# Altium integrated library Linear Technology Power Management Current Sources.IntLib: 79 symbols (part 1 of 7)
Pins are listed as number, name and electrical type; pins without a type are passive.

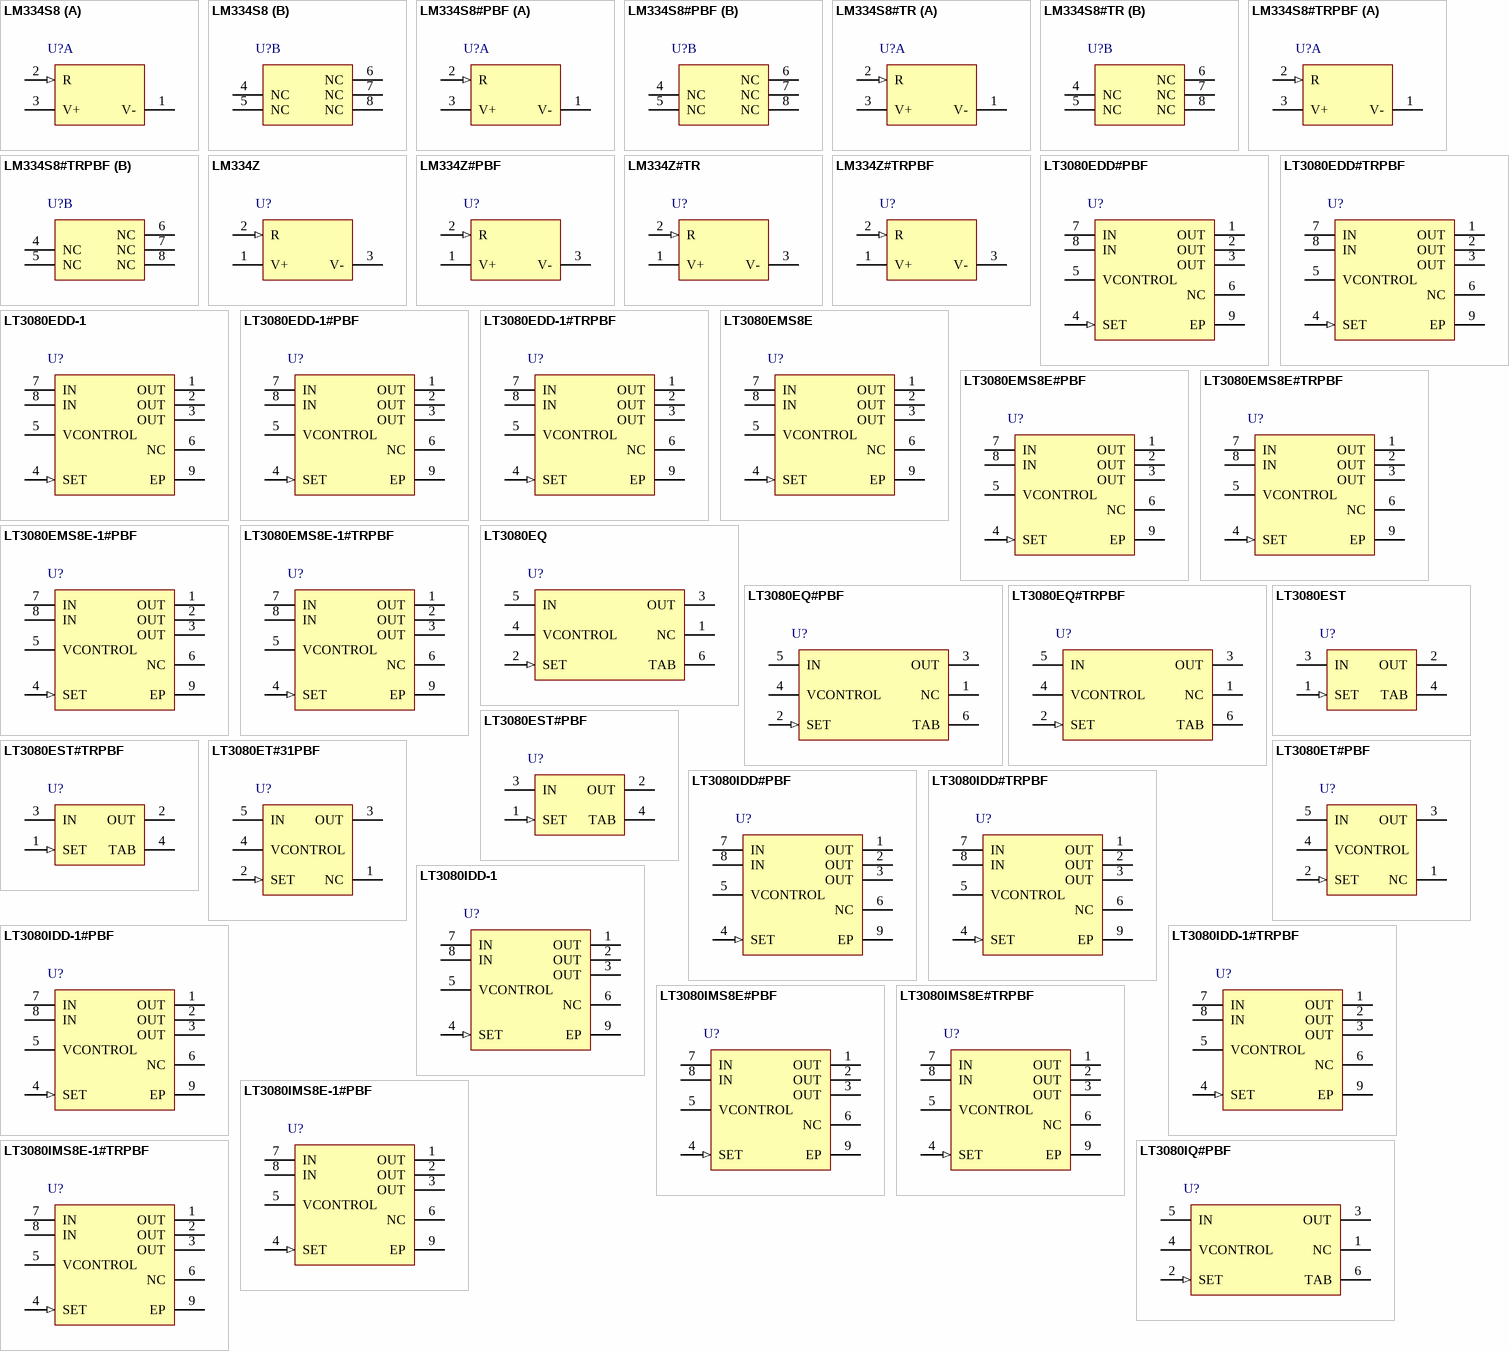
[diagram p0: symbols LM334S8 to LT3080IQ#PBF]

## LM334S8
designator U?
Constant Current Source and Temperature Sensor, 0.28 mA Isupply, 8-pin SOIC (S8-8), 0 to 70 degC; Manufacturer: Linear Technology; PartNumber: LM334S8; Extended Temp: C; Initial Accuracy(%): 3; Isupply(mA): 0.28; Output Current Range: 1uA to 10 mA; Vin Max(V): 30; Vin Min(V): 0.8; DatasheetVersion: Rev. C; PackageVersion: Rev. G, 03/2012; PackageReference: S8-8; PackageDescription: 8-Pin Plastic Small Outline (Narrow .150 Inch), Body 4.9 x 3.9 mm, Pitch 1.27 mm; Supplier 1: Digi-Key; Supplier Part Number 1: LM334S8-ND; RoHS: FALSE; Mounting Technology: Surface Mount; ComponentLink1Description: Manufacturer URL; ComponentLink1URL: http://www.linear.com/; ComponentLink2Description: Datasheet; ComponentLink2URL: http://cds.linear.com/docs/en/datasheet/134sfc.pdf; ComponentLink3Description: Package Specification; ComponentLink3URL: http://cds.linear.com/docs/en/packaging/05081610_G_SO8.pdf
footprint LT-S8-8_N (SOIC, 8-Leads, Body 4.9x3.9mm, Pitch 1.27mm, IPC Medium Density)
footprint LT-S8-8_L (SOIC, 8-Leads, Body 4.9x3.9mm, Pitch 1.27mm, IPC High Density)
footprint LT-S8-8_M (SOIC, 8-Leads, Body 4.9x3.9mm, Pitch 1.27mm, IPC Low Density)
part A pins: 1 V- (power), 2 R (in), 3 V+ (power)
part B pins: 4 NC, 5 NC, 6 NC, 7 NC, 8 NC

## LM334S8#PBF
designator U?
Constant Current Source and Temperature Sensor, 0.28 mA Isupply, 8-pin SOIC (S8-8), 0 to 70 degC, Pb-Free; Manufacturer: Linear Technology; PartNumber: LM334S8#PBF; Extended Temp: C; Initial Accuracy(%): 3; Isupply(mA): 0.28; Output Current Range: 1uA to 10 mA; Vin Max(V): 30; Vin Min(V): 0.8; DatasheetVersion: Rev. C; PackageVersion: Rev. G, 03/2012; PackageReference: S8-8; PackageDescription: 8-Pin Plastic Small Outline (Narrow .150 Inch), Body 4.9 x 3.9 mm, Pitch 1.27 mm; Supplier 1: Digi-Key; Supplier Part Number 1: LM334S8#PBF-ND; Supplier 2: Farnell; Supplier Part Number 2: 1273422; Supplier 3: Newark; Supplier Part Number 3: 55M8797; RoHS: TRUE; Mounting Technology: Surface Mount; ComponentLink1Description: Manufacturer URL; ComponentLink1URL: http://www.linear.com/; ComponentLink2Description: Datasheet; ComponentLink2URL: http://cds.linear.com/docs/en/datasheet/134sfc.pdf; ComponentLink3Description: Package Specification; ComponentLink3URL: http://cds.linear.com/docs/en/packaging/05081610_G_SO8.pdf
footprint LT-S8-8_N (SOIC, 8-Leads, Body 4.9x3.9mm, Pitch 1.27mm, IPC Medium Density)
footprint LT-S8-8_L (SOIC, 8-Leads, Body 4.9x3.9mm, Pitch 1.27mm, IPC High Density)
footprint LT-S8-8_M (SOIC, 8-Leads, Body 4.9x3.9mm, Pitch 1.27mm, IPC Low Density)
part A pins: 1 V- (power), 2 R (in), 3 V+ (power)
part B pins: 4 NC, 5 NC, 6 NC, 7 NC, 8 NC

## LM334S8#TR
designator U?
Constant Current Source and Temperature Sensor, 0.28 mA Isupply, 8-pin SOIC (S8-8), 0 to 70 degC, Tape and Reel; Manufacturer: Linear Technology; PartNumber: LM334S8#TR; Extended Temp: C; Initial Accuracy(%): 3; Isupply(mA): 0.28; Output Current Range: 1uA to 10 mA; Vin Max(V): 30; Vin Min(V): 0.8; DatasheetVersion: Rev. C; PackageVersion: Rev. G, 03/2012; PackageReference: S8-8; PackageDescription: 8-Pin Plastic Small Outline (Narrow .150 Inch), Body 4.9 x 3.9 mm, Pitch 1.27 mm; Supplier 1: Digi-Key; Supplier Part Number 1: LM334S8#TR-ND; Packing: Tape and Reel; RoHS: FALSE; Mounting Technology: Surface Mount; ComponentLink1Description: Manufacturer URL; ComponentLink1URL: http://www.linear.com/; ComponentLink2Description: Datasheet; ComponentLink2URL: http://cds.linear.com/docs/en/datasheet/134sfc.pdf; ComponentLink3Description: Package Specification; ComponentLink3URL: http://cds.linear.com/docs/en/packaging/05081610_G_SO8.pdf
footprint LT-S8-8_N (SOIC, 8-Leads, Body 4.9x3.9mm, Pitch 1.27mm, IPC Medium Density)
footprint LT-S8-8_L (SOIC, 8-Leads, Body 4.9x3.9mm, Pitch 1.27mm, IPC High Density)
footprint LT-S8-8_M (SOIC, 8-Leads, Body 4.9x3.9mm, Pitch 1.27mm, IPC Low Density)
part A pins: 1 V- (power), 2 R (in), 3 V+ (power)
part B pins: 4 NC, 5 NC, 6 NC, 7 NC, 8 NC

## LM334S8#TRPBF
designator U?
Constant Current Source and Temperature Sensor, 0.28 mA Isupply, 8-pin SOIC (S8-8), 0 to 70 degC, Pb-Free, Tape and Reel; Manufacturer: Linear Technology; PartNumber: LM334S8#TRPBF; Extended Temp: C; Initial Accuracy(%): 3; Isupply(mA): 0.28; Output Current Range: 1uA to 10 mA; Vin Max(V): 30; Vin Min(V): 0.8; DatasheetVersion: Rev. C; PackageVersion: Rev. G, 03/2012; PackageReference: S8-8; PackageDescription: 8-Pin Plastic Small Outline (Narrow .150 Inch), Body 4.9 x 3.9 mm, Pitch 1.27 mm; Supplier 1: Digi-Key; Supplier Part Number 1: LM334S8#TRPBF-ND; Packing: Tape and Reel; RoHS: TRUE; Mounting Technology: Surface Mount; ComponentLink1Description: Manufacturer URL; ComponentLink1URL: http://www.linear.com/; ComponentLink2Description: Datasheet; ComponentLink2URL: http://cds.linear.com/docs/en/datasheet/134sfc.pdf; ComponentLink3Description: Package Specification; ComponentLink3URL: http://cds.linear.com/docs/en/packaging/05081610_G_SO8.pdf
footprint LT-S8-8_N (SOIC, 8-Leads, Body 4.9x3.9mm, Pitch 1.27mm, IPC Medium Density)
footprint LT-S8-8_L (SOIC, 8-Leads, Body 4.9x3.9mm, Pitch 1.27mm, IPC High Density)
footprint LT-S8-8_M (SOIC, 8-Leads, Body 4.9x3.9mm, Pitch 1.27mm, IPC Low Density)
part A pins: 1 V- (power), 2 R (in), 3 V+ (power)
part B pins: 4 NC, 5 NC, 6 NC, 7 NC, 8 NC

## LM334Z
designator U?
Constant Current Source and Temperature Sensor, 0.28 mA Isupply, 3-pin TO-226 (Z3), 0 to 70 degC; Manufacturer: Linear Technology; PartNumber: LM334Z; Extended Temp: C; Initial Accuracy(%): 3; Isupply(mA): 0.28; Output Current Range: 1uA to 10 mA; Vin Max(V): 30; Vin Min(V): 0.8; DatasheetVersion: Rev. C; PackageVersion: Rev. C, 06/2010; PackageReference: Z-3; PackageDescription: 3-Pin Plastic TO-92, Body 4.572 x 3.556 mm, Pitch 1.27 mm; Supplier 1: Digi-Key; Supplier Part Number 1: LM334ZLT-ND; Supplier 2: Newark; Supplier Part Number 2: 55M8800; RoHS: FALSE; Mounting Technology: Through Hole; ComponentLink1Description: Manufacturer URL; ComponentLink1URL: http://www.linear.com/; ComponentLink2Description: Datasheet; ComponentLink2URL: http://cds.linear.com/docs/en/datasheet/134sfc.pdf; ComponentLink3Description: Package Specification; ComponentLink3URL: http://cds.linear.com/docs/en/packaging/TO-92_3_05-08-1410.pdf
footprint LT-Z-3-S-TO-226_V (TO-92, 3-Leads, Body 4.572x3.556mm, Pitch 1.27mm)
pins: 1 V+ (power), 2 R (in), 3 V- (power)

## LM334Z#PBF
designator U?
Constant Current Source and Temperature Sensor, 0.28 mA Isupply, 3-pin TO-226 (Z3), 0 to 70 degC, Pb-Free; Manufacturer: Linear Technology; PartNumber: LM334Z#PBF; Extended Temp: C; Initial Accuracy(%): 3; Isupply(mA): 0.28; Output Current Range: 1uA to 10 mA; Vin Max(V): 30; Vin Min(V): 0.8; DatasheetVersion: Rev. C; PackageVersion: Rev. C, 06/2010; PackageReference: Z-3; PackageDescription: 3-Pin Plastic TO-92, Body 4.572 x 3.556 mm, Pitch 1.27 mm; Supplier 1: Digi-Key; Supplier Part Number 1: LM334Z#PBF-ND; Supplier 2: Newark; Supplier Part Number 2: 55M8801; RoHS: TRUE; Mounting Technology: Through Hole; ComponentLink1Description: Manufacturer URL; ComponentLink1URL: http://www.linear.com/; ComponentLink2Description: Datasheet; ComponentLink2URL: http://cds.linear.com/docs/en/datasheet/134sfc.pdf; ComponentLink3Description: Package Specification; ComponentLink3URL: http://cds.linear.com/docs/en/packaging/TO-92_3_05-08-1410.pdf
footprint LT-Z-3-S-TO-226_V (TO-92, 3-Leads, Body 4.572x3.556mm, Pitch 1.27mm)
pins: 1 V+ (power), 2 R (in), 3 V- (power)

## LM334Z#TR
designator U?
Constant Current Source and Temperature Sensor, 0.28 mA Isupply, 3-pin TO-226 (Z-3), 0 to 70 degC, Tape and Reel; Manufacturer: Linear Technology; PartNumber: LM334Z#TR; Extended Temp: C; Initial Accuracy(%): 3; Isupply(mA): 0.28; Output Current Range: 1uA to 10 mA; Vin Max(V): 30; Vin Min(V): 0.8; DatasheetVersion: Rev. C; PackageVersion: Rev. C, 06/2010; PackageReference: Z-3; PackageDescription: 3-Pin Plastic TO-92, Body 4.572 x 3.556 mm, Pitch 1.27 mm; Supplier 1: Digi-Key; Supplier Part Number 1: LM334Z#TR-ND; Packing: Tape and Reel; RoHS: FALSE; Mounting Technology: Through Hole; ComponentLink1Description: Manufacturer URL; ComponentLink1URL: http://www.linear.com/; ComponentLink2Description: Datasheet; ComponentLink2URL: http://cds.linear.com/docs/en/datasheet/134sfc.pdf; ComponentLink3Description: Package Specification; ComponentLink3URL: http://cds.linear.com/docs/en/packaging/TO-92_3_05-08-1410.pdf
footprint LT-Z-3-S-TO-226_V (TO-92, 3-Leads, Body 4.572x3.556mm, Pitch 1.27mm)
pins: 1 V+ (power), 2 R (in), 3 V- (power)

## LM334Z#TRPBF
designator U?
Constant Current Source and Temperature Sensor, 0.28 mA Isupply, 3-pin TO-226 (Z3), 0 to 70 degC, Pb-Free, Tape and Reel; Manufacturer: Linear Technology; PartNumber: LM334Z#TRPBF; Extended Temp: C; Initial Accuracy(%): 3; Isupply(mA): 0.28; Output Current Range: 1uA to 10 mA; Vin Max(V): 30; Vin Min(V): 0.8; DatasheetVersion: Rev. C; PackageVersion: Rev. C, 06/2010; PackageReference: Z-3; PackageDescription: 3-Pin Plastic TO-92, Body 4.572 x 3.556 mm, Pitch 1.27 mm; Supplier 1: Digi-Key; Supplier Part Number 1: LM334Z#TRPBF-ND; Supplier 2: Newark; Supplier Part Number 2: 55M8803; Packing: Tape and Reel; RoHS: TRUE; Mounting Technology: Through Hole; ComponentLink1Description: Manufacturer URL; ComponentLink1URL: http://www.linear.com/; ComponentLink2Description: Datasheet; ComponentLink2URL: http://cds.linear.com/docs/en/datasheet/134sfc.pdf; ComponentLink3Description: Package Specification; ComponentLink3URL: http://cds.linear.com/docs/en/packaging/TO-92_3_05-08-1410.pdf
footprint LT-Z-3-S-TO-226_V (TO-92, 3-Leads, Body 4.572x3.556mm, Pitch 1.27mm)
pins: 1 V+ (power), 2 R (in), 3 V- (power)

## LT3080EDD#PBF
designator U?
Adjustable 1.1 A Single Resistor Low Dropout Regulator, 0.3 mA Isupply, 8-pin SON (DD-8), -40 to 125 degC, Pb-Free; Manufacturer: Linear Technology; PartNumber: LT3080EDD#PBF; Extended Temp: E, I; Initial Accuracy(%): 1; Isupply(mA): 0.3; Vin Max(V): 36; Vin Min(V): 1.2; DatasheetVersion: Rev. F; PackageVersion: Jun-10; PackageReference: DD-8; PackageDescription: 8-Pin Plastic DFN, Body 3 x 3 mm, Pitch 0.5 mm; Supplier 1: Digi-Key; Supplier Part Number 1: LT3080EDD#PBF-ND; Supplier 2: Farnell; Supplier Part Number 2: 1663551; Supplier 3: Newark; Supplier Part Number 3: 75M4714; RoHS: TRUE; Mounting Technology: Surface Mount; Code_JEDEC: MO-229; ComponentLink1Description: Manufacturer URL; ComponentLink1URL: http://www.linear.com/; ComponentLink2Description: Datasheet; ComponentLink2URL: http://cds.linear.com/docs/en/datasheet/3080fc.pdf; ComponentLink3Description: Package Specification; ComponentLink3URL: http://cds.linear.com/docs/en/packaging/DFN_8_05-08-1698.pdf
footprint LT-DD-8_V (SON, 8-Leads, Body 3x3mm, Pitch 0.5mm, Thermal Pad 1.65x2.38 mm, IPC Low Density)
pins: 1 OUT (power) "This is the power output of the device. There must be a minimum load current of 1mA or the output may not regulate.", 2 OUT (power) "This is the power output of the device. There must be a minimum load current of 1mA or the output may not regulate.", 3 OUT (power) "This is the power output of the device. There must be a minimum load current of 1mA or the output may not regulate.", 4 SET (in) "This pin is the input to the error amplifier and the regulation set point for the device. A fixed current of 10uA flows out of this pin through a single external resistor, which programs the output voltage of the device. (See Datasheet)", 5 VCONTROL (power) "This pin is the supply pin for the control circuitry of the device. The current flow into this pin is about 1.7% of the output current. For the device to regulate, this voltage must be more than 1.2V to 1.35V greater than (See Datasheet)", 6 NC "No Connection. No Connect pins have no connection to internal circuitry and may be tied to VIN, VCONTROL, VOUT , GND, or floated.", 7 IN (power) "This is the collector to the power device of the LT3080-1. The output load current is supplied through this pin. For the device to regulate, the voltage at this pin must be more than 0.1V to 0.5V greater than the output (See Datasheet)", 8 IN (power) "This is the collector to the power device of the LT3080-1. The output load current is supplied through this pin. For the device to regulate, the voltage at this pin must be more than 0.1V to 0.5V greater than the output (See Datasheet)", 9 EP (power) "OUT on MS8E and DFN packages."

## LT3080EDD#TRPBF
designator U?
Adjustable 1.1 A Single Resistor Low Dropout Regulator, 0.3 mA Isupply, 8-pin SON (DD-8), -40 to 125 degC, Pb-Free, Tape and Reel; Manufacturer: Linear Technology; PartNumber: LT3080EDD#TRPBF; Extended Temp: E, I; Initial Accuracy(%): 1; Isupply(mA): 0.3; Vin Max(V): 36; Vin Min(V): 1.2; DatasheetVersion: Rev. F; PackageVersion: Jun-10; PackageReference: DD-8; PackageDescription: 8-Pin Plastic DFN, Body 3 x 3 mm, Pitch 0.5 mm; Supplier 1: Digi-Key; Supplier Part Number 1: LT3080EDD#TRPBFTR-ND; Supplier 2: Digi-Key; Supplier Part Number 2: LT3080EDD#TRPBFCT-ND; Supplier 3: Digi-Key; Supplier Part Number 3: LT3080EDD#TRPBFDKR-ND; Supplier 4: Newark; Supplier Part Number 4: 75M4715; Packing: Tape and Reel; RoHS: TRUE; Mounting Technology: Surface Mount; Code_JEDEC: MO-229; ComponentLink1Description: Manufacturer URL; ComponentLink1URL: http://www.linear.com/; ComponentLink2Description: Datasheet; ComponentLink2URL: http://cds.linear.com/docs/en/datasheet/3080fc.pdf; ComponentLink3Description: Package Specification; ComponentLink3URL: http://cds.linear.com/docs/en/packaging/DFN_8_05-08-1698.pdf
footprint LT-DD-8_V (SON, 8-Leads, Body 3x3mm, Pitch 0.5mm, Thermal Pad 1.65x2.38 mm, IPC Low Density)
pins: 1 OUT (power) "This is the power output of the device. There must be a minimum load current of 1mA or the output may not regulate.", 2 OUT (power) "This is the power output of the device. There must be a minimum load current of 1mA or the output may not regulate.", 3 OUT (power) "This is the power output of the device. There must be a minimum load current of 1mA or the output may not regulate.", 4 SET (in) "This pin is the input to the error amplifier and the regulation set point for the device. A fixed current of 10uA flows out of this pin through a single external resistor, which programs the output voltage of the device. (See Datasheet)", 5 VCONTROL (power) "This pin is the supply pin for the control circuitry of the device. The current flow into this pin is about 1.7% of the output current. For the device to regulate, this voltage must be more than 1.2V to 1.35V greater than (See Datasheet)", 6 NC "No Connection. No Connect pins have no connection to internal circuitry and may be tied to VIN, VCONTROL, VOUT , GND, or floated.", 7 IN (power) "This is the collector to the power device of the LT3080-1. The output load current is supplied through this pin. For the device to regulate, the voltage at this pin must be more than 0.1V to 0.5V greater than the output (See Datasheet)", 8 IN (power) "This is the collector to the power device of the LT3080-1. The output load current is supplied through this pin. For the device to regulate, the voltage at this pin must be more than 0.1V to 0.5V greater than the output (See Datasheet)", 9 EP (power) "OUT on MS8E and DFN packages."

## LT3080EDD-1
designator U?
Parallelable 1.1 A Adjustable Single Resistor Low Dropout Regulator, 0.3 mA Isupply, 8-pin SON (DD-8), -40 to 125 degC; Manufacturer: Linear Technology; PartNumber: LT3080EDD-1; Extended Temp: E, I; Initial Accuracy(%): 1; Isupply(mA): 0.3; Output Current Range: 0 to 2200 mA or 0 to 3300 mA; Vin Max(V): 36; Vin Min(V): 1.2; DatasheetVersion: Rev. B; PackageVersion: Jun-10; PackageReference: DD-8; PackageDescription: 8-Pin Plastic DFN, Body 3 x 3 mm, Pitch 0.5 mm; RoHS: FALSE; Mounting Technology: Surface Mount; Code_JEDEC: MO-229; ComponentLink1Description: Manufacturer URL; ComponentLink1URL: http://www.linear.com/; ComponentLink2Description: Datasheet; ComponentLink2URL: http://cds.linear.com/docs/en/datasheet/30801fb.pdf; ComponentLink3Description: Package Specification; ComponentLink3URL: http://cds.linear.com/docs/en/packaging/DFN_8_05-08-1698.pdf
footprint LT-DD-8_V (SON, 8-Leads, Body 3x3mm, Pitch 0.5mm, Thermal Pad 1.65x2.38 mm, IPC Low Density)
pins: 1 OUT (power) "This is the power output of the device. There must be a minimum load current of 1mA or the output may not regulate.", 2 OUT (power) "This is the power output of the device. There must be a minimum load current of 1mA or the output may not regulate.", 3 OUT (power) "This is the power output of the device. There must be a minimum load current of 1mA or the output may not regulate.", 4 SET (in) "This pin is the input to the error amplifier and the regulation set point for the device. A fixed current of 10uA flows out of this pin through a single external resistor, which programs the output voltage of the device. (See Datasheet)", 5 VCONTROL (power) "This pin is the supply pin for the control circuitry of the device. The current flow into this pin is about 1.7% of the output current. For the device to regulate, this voltage must be more than 1.2V to 1.35V greater than (See Datasheet)", 6 NC "No Connection. No Connect pins have no connection to internal circuitry and may be tied to VIN, VCONTROL, VOUT , GND, or floated.", 7 IN (power) "This is the collector to the power device of the LT3080-1. The output load current is supplied through this pin. For the device to regulate, the voltage at this pin must be more than 0.1V to 0.5V greater than the output (See Datasheet)", 8 IN (power) "This is the collector to the power device of the LT3080-1. The output load current is supplied through this pin. For the device to regulate, the voltage at this pin must be more than 0.1V to 0.5V greater than the output (See Datasheet)", 9 EP (power) "OUT on MS8E and DFN packages."

## LT3080EDD-1#PBF
designator U?
Parallelable 1.1 A Adjustable Single Resistor Low Dropout Regulator, 0.3 mA Isupply, 8-pin SON (DD-8), -40 to 125 degC, Pb-Free; Manufacturer: Linear Technology; PartNumber: LT3080EDD-1#PBF; Extended Temp: E, I; Initial Accuracy(%): 1; Isupply(mA): 0.3; Output Current Range: 0 to 2200 mA or 0 to 3300 mA; Vin Max(V): 36; Vin Min(V): 1.2; DatasheetVersion: Rev. B; PackageVersion: Jun-10; PackageReference: DD-8; PackageDescription: 8-Pin Plastic DFN, Body 3 x 3 mm, Pitch 0.5 mm; Supplier 1: Digi-Key; Supplier Part Number 1: LT3080EDD-1#PBF-ND; Supplier 2: Farnell; Supplier Part Number 2: 2295272; Supplier 3: Newark; Supplier Part Number 3: 88M1939; RoHS: TRUE; Mounting Technology: Surface Mount; Code_JEDEC: MO-229; ComponentLink1Description: Manufacturer URL; ComponentLink1URL: http://www.linear.com/; ComponentLink2Description: Datasheet; ComponentLink2URL: http://cds.linear.com/docs/en/datasheet/30801fb.pdf; ComponentLink3Description: Package Specification; ComponentLink3URL: http://cds.linear.com/docs/en/packaging/DFN_8_05-08-1698.pdf
footprint LT-DD-8_V (SON, 8-Leads, Body 3x3mm, Pitch 0.5mm, Thermal Pad 1.65x2.38 mm, IPC Low Density)
pins: 1 OUT (power) "This is the power output of the device. There must be a minimum load current of 1mA or the output may not regulate.", 2 OUT (power) "This is the power output of the device. There must be a minimum load current of 1mA or the output may not regulate.", 3 OUT (power) "This is the power output of the device. There must be a minimum load current of 1mA or the output may not regulate.", 4 SET (in) "This pin is the input to the error amplifier and the regulation set point for the device. A fixed current of 10uA flows out of this pin through a single external resistor, which programs the output voltage of the device. (See Datasheet)", 5 VCONTROL (power) "This pin is the supply pin for the control circuitry of the device. The current flow into this pin is about 1.7% of the output current. For the device to regulate, this voltage must be more than 1.2V to 1.35V greater than (See Datasheet)", 6 NC "No Connection. No Connect pins have no connection to internal circuitry and may be tied to VIN, VCONTROL, VOUT , GND, or floated.", 7 IN (power) "This is the collector to the power device of the LT3080-1. The output load current is supplied through this pin. For the device to regulate, the voltage at this pin must be more than 0.1V to 0.5V greater than the output (See Datasheet)", 8 IN (power) "This is the collector to the power device of the LT3080-1. The output load current is supplied through this pin. For the device to regulate, the voltage at this pin must be more than 0.1V to 0.5V greater than the output (See Datasheet)", 9 EP (power) "OUT on MS8E and DFN packages."

## LT3080EDD-1#TRPBF
designator U?
Parallelable 1.1 A Adjustable Single Resistor Low Dropout Regulator, 0.3 mA Isupply, 8-pin SON (DD-8), -40 to 125 degC, Pb-Free, Tape and Reel; Manufacturer: Linear Technology; PartNumber: LT3080EDD-1#TRPBF; Extended Temp: E, I; Initial Accuracy(%): 1; Isupply(mA): 0.3; Output Current Range: 0 to 2200 mA or 0 to 3300 mA; Vin Max(V): 36; Vin Min(V): 1.2; DatasheetVersion: Rev. B; PackageVersion: Jun-10; PackageReference: DD-8; PackageDescription: 8-Pin Plastic DFN, Body 3 x 3 mm, Pitch 0.5 mm; Supplier 1: Digi-Key; Supplier Part Number 1: LT3080EDD-1#TRPBF-ND; Supplier 2: Newark; Supplier Part Number 2: 88M1940; Packing: Tape and Reel; RoHS: TRUE; Mounting Technology: Surface Mount; Code_JEDEC: MO-229; ComponentLink1Description: Manufacturer URL; ComponentLink1URL: http://www.linear.com/; ComponentLink2Description: Datasheet; ComponentLink2URL: http://cds.linear.com/docs/en/datasheet/30801fb.pdf; ComponentLink3Description: Package Specification; ComponentLink3URL: http://cds.linear.com/docs/en/packaging/DFN_8_05-08-1698.pdf
footprint LT-DD-8_V (SON, 8-Leads, Body 3x3mm, Pitch 0.5mm, Thermal Pad 1.65x2.38 mm, IPC Low Density)
pins: 1 OUT (power) "This is the power output of the device. There must be a minimum load current of 1mA or the output may not regulate.", 2 OUT (power) "This is the power output of the device. There must be a minimum load current of 1mA or the output may not regulate.", 3 OUT (power) "This is the power output of the device. There must be a minimum load current of 1mA or the output may not regulate.", 4 SET (in) "This pin is the input to the error amplifier and the regulation set point for the device. A fixed current of 10uA flows out of this pin through a single external resistor, which programs the output voltage of the device. (See Datasheet)", 5 VCONTROL (power) "This pin is the supply pin for the control circuitry of the device. The current flow into this pin is about 1.7% of the output current. For the device to regulate, this voltage must be more than 1.2V to 1.35V greater than (See Datasheet)", 6 NC "No Connection. No Connect pins have no connection to internal circuitry and may be tied to VIN, VCONTROL, VOUT , GND, or floated.", 7 IN (power) "This is the collector to the power device of the LT3080-1. The output load current is supplied through this pin. For the device to regulate, the voltage at this pin must be more than 0.1V to 0.5V greater than the output (See Datasheet)", 8 IN (power) "This is the collector to the power device of the LT3080-1. The output load current is supplied through this pin. For the device to regulate, the voltage at this pin must be more than 0.1V to 0.5V greater than the output (See Datasheet)", 9 EP (power) "OUT on MS8E and DFN packages."

## LT3080EMS8E
designator U?
Adjustable 1.1 A Single Resistor Low Dropout Regulator, 0.3 mA Isupply, 8-pin SOP (MS8E-8), -40 to 125 degC; Manufacturer: Linear Technology; PartNumber: LT3080EMS8E; Extended Temp: E, I; Initial Accuracy(%): 1; Isupply(mA): 0.3; Vin Max(V): 36; Vin Min(V): 1.2; DatasheetVersion: Rev. F; PackageVersion: Rev. F; PackageReference: MS8E-8; PackageDescription: 8-Pin Plastic MSOP, Exposed Die Pad, Body 3 x 3 mm, Pitch 0.65 mm; RoHS: FALSE; Mounting Technology: Surface Mount; ComponentLink1Description: Manufacturer URL; ComponentLink1URL: http://www.linear.com/; ComponentLink2Description: Datasheet; ComponentLink2URL: http://cds.linear.com/docs/en/datasheet/3080fc.pdf; ComponentLink3Description: Package Specification; ComponentLink3URL: http://cds.linear.com/docs/en/datasheet/3080fc.pdf
footprint LT-MS8E-8-1880X1680TP_N (SOP, 8-Leads, Body 3x3mm, Pitch 0.65mm, Thermal Pad 1.88x1.68mm, IPC Medium Density)
footprint LT-MS8E-8-1880X1680TP_L (SOP, 8-Leads, Body 3x3mm, Pitch 0.65mm, Thermal Pad 1.88x1.68mm, IPC High Density)
footprint LT-MS8E-8-1880X1680TP_M (SOP, 8-Leads, Body 3x3mm, Pitch 0.65mm, Thermal Pad 1.88x1.68mm, IPC Low Density)
pins: 1 OUT (power) "This is the power output of the device. There must be a minimum load current of 1mA or the output may not regulate.", 2 OUT (power) "This is the power output of the device. There must be a minimum load current of 1mA or the output may not regulate.", 3 OUT (power) "This is the power output of the device. There must be a minimum load current of 1mA or the output may not regulate.", 4 SET (in) "This pin is the input to the error amplifier and the regulation set point for the device. A fixed current of 10uA flows out of this pin through a single external resistor, which programs the output voltage of the device. (See Datasheet)", 5 VCONTROL (power) "This pin is the supply pin for the control circuitry of the device. The current flow into this pin is about 1.7% of the output current. For the device to regulate, this voltage must be more than 1.2V to 1.35V greater than (See Datasheet)", 6 NC "No Connection. No Connect pins have no connection to internal circuitry and may be tied to VIN, VCONTROL, VOUT , GND, or floated.", 7 IN (power) "This is the collector to the power device of the LT3080-1. The output load current is supplied through this pin. For the device to regulate, the voltage at this pin must be more than 0.1V to 0.5V greater than the output (See Datasheet)", 8 IN (power) "This is the collector to the power device of the LT3080-1. The output load current is supplied through this pin. For the device to regulate, the voltage at this pin must be more than 0.1V to 0.5V greater than the output (See Datasheet)", 9 EP (power) "OUT on MS8E and DFN packages."

## LT3080EMS8E#PBF
designator U?
Adjustable 1.1 A Single Resistor Low Dropout Regulator, 0.3 mA Isupply, 8-pin SOP (MS8E-8), -40 to 125 degC, Pb-Free; Manufacturer: Linear Technology; PartNumber: LT3080EMS8E#PBF; Extended Temp: E, I; Initial Accuracy(%): 1; Isupply(mA): 0.3; Vin Max(V): 36; Vin Min(V): 1.2; DatasheetVersion: Rev. F; PackageVersion: Rev. F; PackageReference: MS8E-8; PackageDescription: 8-Pin Plastic MSOP, Exposed Die Pad, Body 3 x 3 mm, Pitch 0.65 mm; Supplier 1: Digi-Key; Supplier Part Number 1: LT3080EMS8E#PBF-ND; Supplier 2: Farnell; Supplier Part Number 2: 1663552; Supplier 3: Newark; Supplier Part Number 3: 75M4716; RoHS: TRUE; Mounting Technology: Surface Mount; ComponentLink1Description: Manufacturer URL; ComponentLink1URL: http://www.linear.com/; ComponentLink2Description: Datasheet; ComponentLink2URL: http://cds.linear.com/docs/en/datasheet/3080fc.pdf; ComponentLink3Description: Package Specification; ComponentLink3URL: http://cds.linear.com/docs/en/datasheet/3080fc.pdf
footprint LT-MS8E-8-1880X1680TP_N (SOP, 8-Leads, Body 3x3mm, Pitch 0.65mm, Thermal Pad 1.88x1.68mm, IPC Medium Density)
footprint LT-MS8E-8-1880X1680TP_L (SOP, 8-Leads, Body 3x3mm, Pitch 0.65mm, Thermal Pad 1.88x1.68mm, IPC High Density)
footprint LT-MS8E-8-1880X1680TP_M (SOP, 8-Leads, Body 3x3mm, Pitch 0.65mm, Thermal Pad 1.88x1.68mm, IPC Low Density)
pins: 1 OUT (power) "This is the power output of the device. There must be a minimum load current of 1mA or the output may not regulate.", 2 OUT (power) "This is the power output of the device. There must be a minimum load current of 1mA or the output may not regulate.", 3 OUT (power) "This is the power output of the device. There must be a minimum load current of 1mA or the output may not regulate.", 4 SET (in) "This pin is the input to the error amplifier and the regulation set point for the device. A fixed current of 10uA flows out of this pin through a single external resistor, which programs the output voltage of the device. (See Datasheet)", 5 VCONTROL (power) "This pin is the supply pin for the control circuitry of the device. The current flow into this pin is about 1.7% of the output current. For the device to regulate, this voltage must be more than 1.2V to 1.35V greater than (See Datasheet)", 6 NC "No Connection. No Connect pins have no connection to internal circuitry and may be tied to VIN, VCONTROL, VOUT , GND, or floated.", 7 IN (power) "This is the collector to the power device of the LT3080-1. The output load current is supplied through this pin. For the device to regulate, the voltage at this pin must be more than 0.1V to 0.5V greater than the output (See Datasheet)", 8 IN (power) "This is the collector to the power device of the LT3080-1. The output load current is supplied through this pin. For the device to regulate, the voltage at this pin must be more than 0.1V to 0.5V greater than the output (See Datasheet)", 9 EP (power) "OUT on MS8E and DFN packages."

## LT3080EMS8E#TRPBF
designator U?
Adjustable 1.1 A Single Resistor Low Dropout Regulator, 0.3 mA Isupply, 8-pin SOP (MS8E-8), -40 to 125 degC, Pb-Free, Tape and Reel; Manufacturer: Linear Technology; PartNumber: LT3080EMS8E#TRPBF; Extended Temp: E, I; Initial Accuracy(%): 1; Isupply(mA): 0.3; Vin Max(V): 36; Vin Min(V): 1.2; DatasheetVersion: Rev. F; PackageVersion: Rev. F; PackageReference: MS8E-8; PackageDescription: 8-Pin Plastic MSOP, Exposed Die Pad, Body 3 x 3 mm, Pitch 0.65 mm; Supplier 1: Digi-Key; Supplier Part Number 1: LT3080EMS8E#TRPBFTR-ND; Supplier 2: Digi-Key; Supplier Part Number 2: LT3080EMS8E#TRPBFCT-ND; Supplier 3: Digi-Key; Supplier Part Number 3: LT3080EMS8E#TRPBFDKR-ND; Supplier 4: Newark; Supplier Part Number 4: 75M4717; Packing: Tape and Reel; RoHS: TRUE; Mounting Technology: Surface Mount; ComponentLink1Description: Manufacturer URL; ComponentLink1URL: http://www.linear.com/; ComponentLink2Description: Datasheet; ComponentLink2URL: http://cds.linear.com/docs/en/datasheet/3080fc.pdf; ComponentLink3Description: Package Specification; ComponentLink3URL: http://cds.linear.com/docs/en/datasheet/3080fc.pdf
footprint LT-MS8E-8-1880X1680TP_N (SOP, 8-Leads, Body 3x3mm, Pitch 0.65mm, Thermal Pad 1.88x1.68mm, IPC Medium Density)
footprint LT-MS8E-8-1880X1680TP_L (SOP, 8-Leads, Body 3x3mm, Pitch 0.65mm, Thermal Pad 1.88x1.68mm, IPC High Density)
footprint LT-MS8E-8-1880X1680TP_M (SOP, 8-Leads, Body 3x3mm, Pitch 0.65mm, Thermal Pad 1.88x1.68mm, IPC Low Density)
pins: 1 OUT (power) "This is the power output of the device. There must be a minimum load current of 1mA or the output may not regulate.", 2 OUT (power) "This is the power output of the device. There must be a minimum load current of 1mA or the output may not regulate.", 3 OUT (power) "This is the power output of the device. There must be a minimum load current of 1mA or the output may not regulate.", 4 SET (in) "This pin is the input to the error amplifier and the regulation set point for the device. A fixed current of 10uA flows out of this pin through a single external resistor, which programs the output voltage of the device. (See Datasheet)", 5 VCONTROL (power) "This pin is the supply pin for the control circuitry of the device. The current flow into this pin is about 1.7% of the output current. For the device to regulate, this voltage must be more than 1.2V to 1.35V greater than (See Datasheet)", 6 NC "No Connection. No Connect pins have no connection to internal circuitry and may be tied to VIN, VCONTROL, VOUT , GND, or floated.", 7 IN (power) "This is the collector to the power device of the LT3080-1. The output load current is supplied through this pin. For the device to regulate, the voltage at this pin must be more than 0.1V to 0.5V greater than the output (See Datasheet)", 8 IN (power) "This is the collector to the power device of the LT3080-1. The output load current is supplied through this pin. For the device to regulate, the voltage at this pin must be more than 0.1V to 0.5V greater than the output (See Datasheet)", 9 EP (power) "OUT on MS8E and DFN packages."

## LT3080EMS8E-1#PBF
designator U?
Parallelable 1.1 A Adjustable Single Resistor Low Dropout Regulator, 0.3 mA Isupply, 8-pin SOP (MS8E-8), -40 to 125 degC, Pb-Free; Manufacturer: Linear Technology; PartNumber: LT3080EMS8E-1#PBF; Extended Temp: E, I; Initial Accuracy(%): 1; Isupply(mA): 0.3; Output Current Range: 0 to 2200 mA or 0 to 3300 mA; Vin Max(V): 36; Vin Min(V): 1.2; DatasheetVersion: Rev. B; PackageVersion: Rev. F; PackageReference: MS8E-8; PackageDescription: 8-Pin Plastic MSOP, Exposed Die Pad, Body 3 x 3 mm, Pitch 0.65 mm; Supplier 1: Digi-Key; Supplier Part Number 1: LT3080EMS8E-1#PBF-ND; Supplier 2: Farnell; Supplier Part Number 2: 2295273; Supplier 3: Newark; Supplier Part Number 3: 88M1941; RoHS: TRUE; Mounting Technology: Surface Mount; ComponentLink1Description: Manufacturer URL; ComponentLink1URL: http://www.linear.com/; ComponentLink2Description: Datasheet; ComponentLink2URL: http://cds.linear.com/docs/en/datasheet/30801fb.pdf; ComponentLink3Description: Package Specification; ComponentLink3URL: http://cds.linear.com/docs/en/datasheet/3080fc.pdf
footprint LT-MS8E-8-1880X1680TP_N (SOP, 8-Leads, Body 3x3mm, Pitch 0.65mm, Thermal Pad 1.88x1.68mm, IPC Medium Density)
footprint LT-MS8E-8-1880X1680TP_L (SOP, 8-Leads, Body 3x3mm, Pitch 0.65mm, Thermal Pad 1.88x1.68mm, IPC High Density)
footprint LT-MS8E-8-1880X1680TP_M (SOP, 8-Leads, Body 3x3mm, Pitch 0.65mm, Thermal Pad 1.88x1.68mm, IPC Low Density)
pins: 1 OUT (power) "This is the power output of the device. There must be a minimum load current of 1mA or the output may not regulate.", 2 OUT (power) "This is the power output of the device. There must be a minimum load current of 1mA or the output may not regulate.", 3 OUT (power) "This is the power output of the device. There must be a minimum load current of 1mA or the output may not regulate.", 4 SET (in) "This pin is the input to the error amplifier and the regulation set point for the device. A fixed current of 10uA flows out of this pin through a single external resistor, which programs the output voltage of the device. (See Datasheet)", 5 VCONTROL (power) "This pin is the supply pin for the control circuitry of the device. The current flow into this pin is about 1.7% of the output current. For the device to regulate, this voltage must be more than 1.2V to 1.35V greater than (See Datasheet)", 6 NC "No Connection. No Connect pins have no connection to internal circuitry and may be tied to VIN, VCONTROL, VOUT , GND, or floated.", 7 IN (power) "This is the collector to the power device of the LT3080-1. The output load current is supplied through this pin. For the device to regulate, the voltage at this pin must be more than 0.1V to 0.5V greater than the output (See Datasheet)", 8 IN (power) "This is the collector to the power device of the LT3080-1. The output load current is supplied through this pin. For the device to regulate, the voltage at this pin must be more than 0.1V to 0.5V greater than the output (See Datasheet)", 9 EP (power) "OUT on MS8E and DFN packages."

## LT3080EMS8E-1#TRPBF
designator U?
Parallelable 1.1 A Adjustable Single Resistor Low Dropout Regulator, 0.3 mA Isupply, 8-pin SOP (MS8E-8), -40 to 125 degC, Pb-Free, Tape and Reel; Manufacturer: Linear Technology; PartNumber: LT3080EMS8E-1#TRPBF; Extended Temp: E, I; Initial Accuracy(%): 1; Isupply(mA): 0.3; Output Current Range: 0 to 2200 mA or 0 to 3300 mA; Vin Max(V): 36; Vin Min(V): 1.2; DatasheetVersion: Rev. B; PackageVersion: Rev. F; PackageReference: MS8E-8; PackageDescription: 8-Pin Plastic MSOP, Exposed Die Pad, Body 3 x 3 mm, Pitch 0.65 mm; Supplier 1: Digi-Key; Supplier Part Number 1: LT3080EMS8E-1#TRPBF-ND; Supplier 2: Newark; Supplier Part Number 2: 88M1942; Packing: Tape and Reel; RoHS: TRUE; Mounting Technology: Surface Mount; ComponentLink1Description: Manufacturer URL; ComponentLink1URL: http://www.linear.com/; ComponentLink2Description: Datasheet; ComponentLink2URL: http://cds.linear.com/docs/en/datasheet/30801fb.pdf; ComponentLink3Description: Package Specification; ComponentLink3URL: http://cds.linear.com/docs/en/datasheet/3080fc.pdf
footprint LT-MS8E-8-1880X1680TP_N (SOP, 8-Leads, Body 3x3mm, Pitch 0.65mm, Thermal Pad 1.88x1.68mm, IPC Medium Density)
footprint LT-MS8E-8-1880X1680TP_L (SOP, 8-Leads, Body 3x3mm, Pitch 0.65mm, Thermal Pad 1.88x1.68mm, IPC High Density)
footprint LT-MS8E-8-1880X1680TP_M (SOP, 8-Leads, Body 3x3mm, Pitch 0.65mm, Thermal Pad 1.88x1.68mm, IPC Low Density)
pins: 1 OUT (power) "This is the power output of the device. There must be a minimum load current of 1mA or the output may not regulate.", 2 OUT (power) "This is the power output of the device. There must be a minimum load current of 1mA or the output may not regulate.", 3 OUT (power) "This is the power output of the device. There must be a minimum load current of 1mA or the output may not regulate.", 4 SET (in) "This pin is the input to the error amplifier and the regulation set point for the device. A fixed current of 10uA flows out of this pin through a single external resistor, which programs the output voltage of the device. (See Datasheet)", 5 VCONTROL (power) "This pin is the supply pin for the control circuitry of the device. The current flow into this pin is about 1.7% of the output current. For the device to regulate, this voltage must be more than 1.2V to 1.35V greater than (See Datasheet)", 6 NC "No Connection. No Connect pins have no connection to internal circuitry and may be tied to VIN, VCONTROL, VOUT , GND, or floated.", 7 IN (power) "This is the collector to the power device of the LT3080-1. The output load current is supplied through this pin. For the device to regulate, the voltage at this pin must be more than 0.1V to 0.5V greater than the output (See Datasheet)", 8 IN (power) "This is the collector to the power device of the LT3080-1. The output load current is supplied through this pin. For the device to regulate, the voltage at this pin must be more than 0.1V to 0.5V greater than the output (See Datasheet)", 9 EP (power) "OUT on MS8E and DFN packages."

## LT3080EQ
designator U?
Adjustable 1.1 A Single Resistor Low Dropout Regulator, 0.3 mA Isupply, 5-pin DPAK (Q-5), -40 to 125 degC; Manufacturer: Linear Technology; PartNumber: LT3080EQ; Extended Temp: E, I; Initial Accuracy(%): 1; Isupply(mA): 0.3; Vin Max(V): 36; Vin Min(V): 1.2; DatasheetVersion: Rev. F; PackageVersion: Rev. F, 09/2011; PackageReference: Q-5; PackageDescription: 5-Pin Plastic DD Pak, Body 10.2235 x 8.89 mm, Pitch 1.702 mm; RoHS: FALSE; Mounting Technology: Surface Mount; ComponentLink1Description: Manufacturer URL; ComponentLink1URL: http://www.linear.com/; ComponentLink2Description: Datasheet; ComponentLink2URL: http://cds.linear.com/docs/en/datasheet/3080fc.pdf; ComponentLink3Description: Package Specification; ComponentLink3URL: http://cds.linear.com/docs/en/packaging/Q%20DD5%2005-08-1461%20Rev%20F.pdf
footprint LT-Q-5_N (DPAK, 5-Leads, Body 10.22x8.89mm, Pitch 1.702mm, IPC Medium Density)
footprint LT-Q-5_L (DPAK, 5-Leads, Body 10.22x8.89mm, Pitch 1.702mm, IPC High Density)
footprint LT-Q-5_M (DPAK, 5-Leads, Body 10.22x8.89mm, Pitch 1.702mm, IPC Low Density)
pins: 1 NC "No Connection. No connect pins have no connection to internal circuitry and may be tied to VIN, VCONTROL, VOUT , GND or floated.", 2 SET (in) "This pin is the input to the error amplifier and the regulation set point for the device. A fixed current of 10uA flows out of this pin through a single external resistor, which programs the output voltage of the device. (See Datasheet)", 3 OUT (power) "This is the power output of the device. There must be a minimum load current of 1mA or the output may not regulate.", 4 VCONTROL (power) "This pin is the supply pin for the control circuitry of the device. The current flow into this pin is about 1.7% of the output current. For the device to regulate, this voltage must be more than 1.2V to 1.35V greater than (See Datasheet)", 5 IN (power) "This is the collector to the power device of the LT3080. The output load current is supplied through this pin. For the device to regulate, the voltage at this pin must be more than 0.1V to 0.5V greater than the output (See Datasheet)", 6 TAB (power) "OUT on DD-Pak, TO-220 and SOT-223 packages."

## LT3080EQ#PBF
designator U?
Adjustable 1.1 A Single Resistor Low Dropout Regulator, 0.3 mA Isupply, 5-pin DPAK (Q-5), -40 to 125 degC, Pb-Free; Manufacturer: Linear Technology; PartNumber: LT3080EQ#PBF; Extended Temp: E, I; Initial Accuracy(%): 1; Isupply(mA): 0.3; Vin Max(V): 36; Vin Min(V): 1.2; DatasheetVersion: Rev. F; PackageVersion: Rev. F, 09/2011; PackageReference: Q-5; PackageDescription: 5-Pin Plastic DD Pak, Body 10.2235 x 8.89 mm, Pitch 1.702 mm; Supplier 1: Digi-Key; Supplier Part Number 1: LT3080EQ#PBF-ND; Supplier 2: Farnell; Supplier Part Number 2: 2102649; Supplier 3: Newark; Supplier Part Number 3: 24R3350; RoHS: TRUE; Mounting Technology: Surface Mount; ComponentLink1Description: Manufacturer URL; ComponentLink1URL: http://www.linear.com/; ComponentLink2Description: Datasheet; ComponentLink2URL: http://cds.linear.com/docs/en/datasheet/3080fc.pdf; ComponentLink3Description: Package Specification; ComponentLink3URL: http://cds.linear.com/docs/en/packaging/Q%20DD5%2005-08-1461%20Rev%20F.pdf
footprint LT-Q-5_N (DPAK, 5-Leads, Body 10.22x8.89mm, Pitch 1.702mm, IPC Medium Density)
footprint LT-Q-5_L (DPAK, 5-Leads, Body 10.22x8.89mm, Pitch 1.702mm, IPC High Density)
footprint LT-Q-5_M (DPAK, 5-Leads, Body 10.22x8.89mm, Pitch 1.702mm, IPC Low Density)
pins: 1 NC "No Connection. No connect pins have no connection to internal circuitry and may be tied to VIN, VCONTROL, VOUT , GND or floated.", 2 SET (in) "This pin is the input to the error amplifier and the regulation set point for the device. A fixed current of 10uA flows out of this pin through a single external resistor, which programs the output voltage of the device. (See Datasheet)", 3 OUT (power) "This is the power output of the device. There must be a minimum load current of 1mA or the output may not regulate.", 4 VCONTROL (power) "This pin is the supply pin for the control circuitry of the device. The current flow into this pin is about 1.7% of the output current. For the device to regulate, this voltage must be more than 1.2V to 1.35V greater than (See Datasheet)", 5 IN (power) "This is the collector to the power device of the LT3080. The output load current is supplied through this pin. For the device to regulate, the voltage at this pin must be more than 0.1V to 0.5V greater than the output (See Datasheet)", 6 TAB (power) "OUT on DD-Pak, TO-220 and SOT-223 packages."

## LT3080EQ#TRPBF
designator U?
Adjustable 1.1 A Single Resistor Low Dropout Regulator, 0.3 mA Isupply, 5-pin DPAK (Q-5), -40 to 125 degC, Pb-Free, Tape and Reel; Manufacturer: Linear Technology; PartNumber: LT3080EQ#TRPBF; Extended Temp: E, I; Initial Accuracy(%): 1; Isupply(mA): 0.3; Vin Max(V): 36; Vin Min(V): 1.2; DatasheetVersion: Rev. F; PackageVersion: Rev. F, 09/2011; PackageReference: Q-5; PackageDescription: 5-Pin Plastic DD Pak, Body 10.2235 x 8.89 mm, Pitch 1.702 mm; Supplier 1: Digi-Key; Supplier Part Number 1: LT3080EQ#TRPBF-ND; Supplier 2: Newark; Supplier Part Number 2: 25R2551; Packing: Tape and Reel; RoHS: TRUE; Mounting Technology: Surface Mount; ComponentLink1Description: Manufacturer URL; ComponentLink1URL: http://www.linear.com/; ComponentLink2Description: Datasheet; ComponentLink2URL: http://cds.linear.com/docs/en/datasheet/3080fc.pdf; ComponentLink3Description: Package Specification; ComponentLink3URL: http://cds.linear.com/docs/en/packaging/Q%20DD5%2005-08-1461%20Rev%20F.pdf
footprint LT-Q-5_N (DPAK, 5-Leads, Body 10.22x8.89mm, Pitch 1.702mm, IPC Medium Density)
footprint LT-Q-5_L (DPAK, 5-Leads, Body 10.22x8.89mm, Pitch 1.702mm, IPC High Density)
footprint LT-Q-5_M (DPAK, 5-Leads, Body 10.22x8.89mm, Pitch 1.702mm, IPC Low Density)
pins: 1 NC "No Connection. No connect pins have no connection to internal circuitry and may be tied to VIN, VCONTROL, VOUT , GND or floated.", 2 SET (in) "This pin is the input to the error amplifier and the regulation set point for the device. A fixed current of 10uA flows out of this pin through a single external resistor, which programs the output voltage of the device. (See Datasheet)", 3 OUT (power) "This is the power output of the device. There must be a minimum load current of 1mA or the output may not regulate.", 4 VCONTROL (power) "This pin is the supply pin for the control circuitry of the device. The current flow into this pin is about 1.7% of the output current. For the device to regulate, this voltage must be more than 1.2V to 1.35V greater than (See Datasheet)", 5 IN (power) "This is the collector to the power device of the LT3080. The output load current is supplied through this pin. For the device to regulate, the voltage at this pin must be more than 0.1V to 0.5V greater than the output (See Datasheet)", 6 TAB (power) "OUT on DD-Pak, TO-220 and SOT-223 packages."

## LT3080EST
designator U?
Adjustable 1.1 A Single Resistor Low Dropout Regulator, 0.3 mA Isupply, 3-pin SOT223 (ST-3), -40 to 125 degC; Manufacturer: Linear Technology; PartNumber: LT3080EST; Extended Temp: E, I; Initial Accuracy(%): 1; Isupply(mA): 0.3; Vin Max(V): 36; Vin Min(V): 1.2; DatasheetVersion: Rev. F; PackageVersion: Jun-10; PackageReference: ST-3; PackageDescription: 3-Pin Plastic SOT-223, Body 3.505 x 6.505 mm, Pitch 2.3 mm; RoHS: FALSE; Mounting Technology: Surface Mount; ComponentLink1Description: Manufacturer URL; ComponentLink1URL: http://www.linear.com/; ComponentLink2Description: Datasheet; ComponentLink2URL: http://cds.linear.com/docs/en/datasheet/3080fc.pdf; ComponentLink3Description: Package Specification; ComponentLink3URL: http://cds.linear.com/docs/en/packaging/SOT_3_05-08-1630.pdf
footprint LT-ST-3-SOT-223_N (SOT223, 4-Leads, Body 6.505x3.505mm, Pitch 2.3mm, IPC Medium Density)
footprint LT-ST-3-SOT-223_L (SOT223, 4-Leads, Body 6.505x3.505mm, Pitch 2.3mm, IPC High Density)
footprint LT-ST-3-SOT-223_M (SOT223, 4-Leads, Body 6.505x3.505mm, Pitch 2.3mm, IPC Low Density)
pins: 1 SET (in) "This pin is the error amplifier’s noninverting input and also sets the operating bias point of the circuit. A fixed 10uA current source flows out of this pin. Two resistors program IOUT as a function of the resistor rati(See Datasheet)", 2 OUT (power) "This is the power output of the device. The minimum current source value to which the device can be set is 0.5mA or the device will not regulate.", 3 IN (power) "This pin supplies power to bias internal circuitry and supply output load current. For the device to operate properly and regulate, the voltage on this pin must be 1.2V to 1.4V above the OUT pin (depending on output load (See Datasheet)", 4 TAB (power)

## LT3080EST#PBF
designator U?
Adjustable 1.1 A Single Resistor Low Dropout Regulator, 0.3 mA Isupply, 3-pin SOT223 (ST-3), -40 to 125 degC, Pb-Free; Manufacturer: Linear Technology; PartNumber: LT3080EST#PBF; Extended Temp: E, I; Initial Accuracy(%): 1; Isupply(mA): 0.3; Vin Max(V): 36; Vin Min(V): 1.2; DatasheetVersion: Rev. F; PackageVersion: Jun-10; PackageReference: ST-3; PackageDescription: 3-Pin Plastic SOT-223, Body 3.505 x 6.505 mm, Pitch 2.3 mm; Supplier 1: Digi-Key; Supplier Part Number 1: LT3080EST#PBF-ND; Supplier 2: Farnell; Supplier Part Number 2: 1663553; Supplier 3: Newark; Supplier Part Number 3: 75M4718; RoHS: TRUE; Mounting Technology: Surface Mount; ComponentLink1Description: Manufacturer URL; ComponentLink1URL: http://www.linear.com/; ComponentLink2Description: Datasheet; ComponentLink2URL: http://cds.linear.com/docs/en/datasheet/3080fc.pdf; ComponentLink3Description: Package Specification; ComponentLink3URL: http://cds.linear.com/docs/en/packaging/SOT_3_05-08-1630.pdf
footprint LT-ST-3-SOT-223_N (SOT223, 4-Leads, Body 6.505x3.505mm, Pitch 2.3mm, IPC Medium Density)
footprint LT-ST-3-SOT-223_L (SOT223, 4-Leads, Body 6.505x3.505mm, Pitch 2.3mm, IPC High Density)
footprint LT-ST-3-SOT-223_M (SOT223, 4-Leads, Body 6.505x3.505mm, Pitch 2.3mm, IPC Low Density)
pins: 1 SET (in) "This pin is the error amplifier’s noninverting input and also sets the operating bias point of the circuit. A fixed 10uA current source flows out of this pin. Two resistors program IOUT as a function of the resistor rati(See Datasheet)", 2 OUT (power) "This is the power output of the device. The minimum current source value to which the device can be set is 0.5mA or the device will not regulate.", 3 IN (power) "This pin supplies power to bias internal circuitry and supply output load current. For the device to operate properly and regulate, the voltage on this pin must be 1.2V to 1.4V above the OUT pin (depending on output load (See Datasheet)", 4 TAB (power)